# Altium footprint library SOT23.PcbLib: 1 footprints
Each footprint in its own frame and in the unit in brackets; x right, y up, seen from the top. Pads: shape width x height; smd on the part's side, far side on the other; paste and mask are expansions set on the pad; w line width, h text height; cw(c..) or ccw(c..) is an arc to the next point about the centre after c.
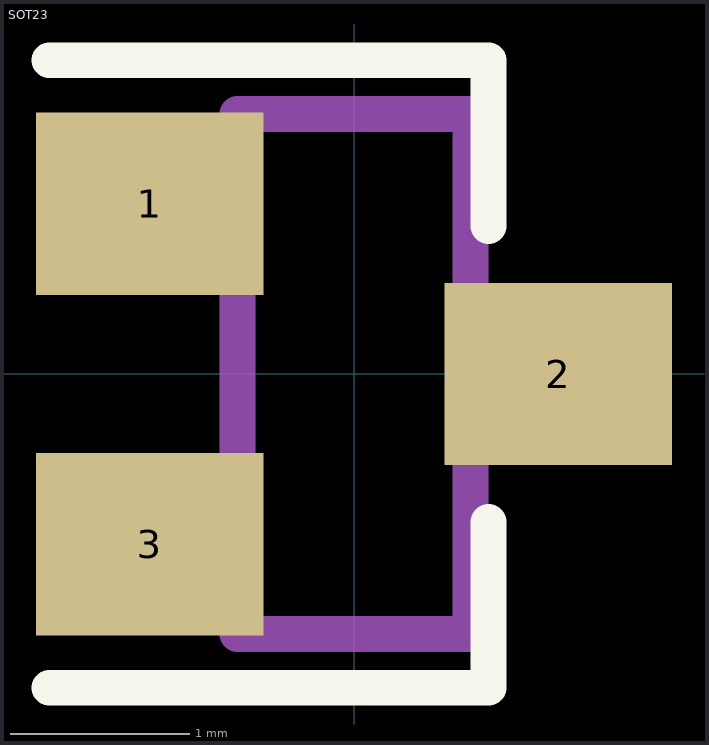
[diagram p0: the footprint, top view; thin cyan lines are the x and y axes]

## SOT23 [mm]
pads (3):
  rect 1.27x1.016 smd: 1(-1.14,0.95) 2(1.14,0) 3(-1.14,-0.95)
Top Overlay:
  lines w0.2: -1.7,-1.75 0.75,-1.75 0.75,-0.825 ; -1.7,1.75 0.75,1.75 0.75,0.825
TopAssy:
  lines w0.2: -0.9,-1.15 -0.9,-0.75 ; -0.9,0.75 -0.9,1.15 ; -0.65,-1.15 -1.2,-1.15 -1.2,-0.75 -0.65,-0.75 ; -0.65,0.75 -1.2,0.75 -1.2,1.15 -0.65,1.15 ; 0.65,-0.2 1.2,-0.2 1.2,0.2 0.65,0.2 ; 0.9,-0.2 0.9,0.2 ; -0.65,-1.45 -0.65,1.45 0.65,1.45 0.65,-1.45 -0.65,-1.45
3D body "SOT-23.STEP": height 1.1, standoff 0, extent -1.15,-1.5 1.15,1.5